# EAGLE library part MAX5312 (library Xenon_Light)
Maxim MAX5312 DAC The MAX5312 12-bit, serial interface, digital-to-analog converter (DAC) provides bipolar +/-5V to +/-10V outputs from +/-12V to +/-15V power supply voltages, or a unipolar 5V to 10V output from a single 12V to 15V power supply voltage.
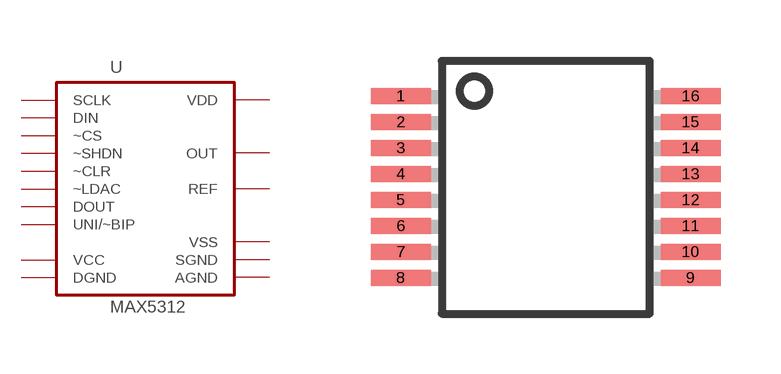
[diagram p2: symbol with the pads of SSOP16; footprint SSOP16]

Designator prefix U

## MAX5312  [SSOP16]
1  SCLK
2  DIN
3  ~CS
4  DOUT
5  DGND  sup
6  VCC  pwr
7  ~SHDN
8  UNI/~BIP
9  OUT
10  SGND  sup
11  AGND  sup
12  VSS  sup
13  REF
14  VDD  pwr
15  ~CLR
16  ~LDAC

## Footprint SSOP16 (pad centres in mm)
Shrink Small Outline Package package type SS
smd 1.5 x 0.4: 1 -3.625,2.925; 2 -3.625,2.275; 3 -3.625,1.625; 4 -3.625,0.975; 5 -3.625,0.325; 6 -3.625,-0.325; 7 -3.625,-0.975; 8 -3.625,-1.625; 9 3.625,-1.625; 10 3.625,-0.975; 11 3.625,-0.325; 12 3.625,0.325; 13 3.625,0.975; 14 3.625,1.625; 15 3.625,2.275; 16 3.625,2.925